# EAGLE library part EL7104CNZ (library EL7104CNZ)
The EL7104 is a matched driver IC that improves the operation of the industry-standard TC-4420/29 clock drivers. The Elantec version is a very High-Speed driver capable of delivering peak currents of 1A into highly capacitive loads. The High-Speed performance is achieved by means of a proprietary Turbo-Driver circuit that speeds up input stages by tapping the wider voltage swing at the output. Improved speed and drive capability are enhanced by matched rise and fall delay times. These matched delays maintai Source: Datasheet <https://www.renesas.com/en-us/www/doc/datasheet/el7104.pdf>
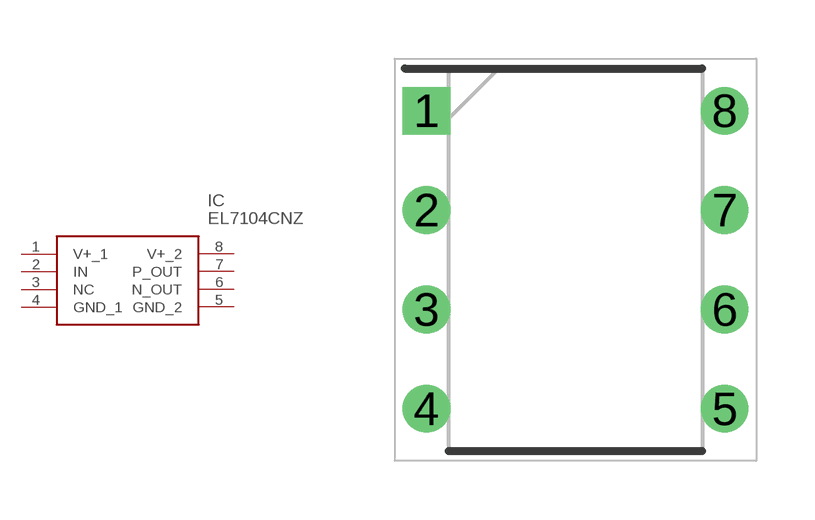
[diagram p0: symbol with the pads of DIP762W51P254L952H533Q8N; footprint DIP762W51P254L952H533Q8N]

Designator prefix IC

## EL7104CNZ (Description: The EL7104 is a matched driver IC that improves the operation of the industry-standard TC-4420/29 clock drivers. The Elantec version is a very High-Speed driver capable of delivering peak currents of 1A into highly capacitive loads. The High-Speed performance is achieved by means of a proprietary Turbo-Driver circuit that speeds up input stages by tapping the wider voltage swing at the output. Improved speed and drive capability are enhanced by matched rise and fall delay times. These matched delays maintai; Height: 5.334mm; Manufacturer_Name: Renesas Electronics; Manufacturer_Part_Number: EL7104CNZ)  [DIP762W51P254L952H533Q8N]
1  V+_1
2  IN
3  NC  nc
4  GND_1
5  GND_2
6  N_OUT
7  P_OUT
8  V+_2

## Footprint DIP762W51P254L952H533Q8N (pad centres in mm)
MDP0031
drill 0.708 pad 1.108 square: 1 -3.81,3.81
drill 0.708 pad 1.108: 2 -3.81,1.27; 3 -3.81,-1.27; 4 -3.81,-3.81; 5 3.81,-3.81; 6 3.81,-1.27; 7 3.81,1.27; 8 3.81,3.81